# Altium schematic symbol library LM675T.SchLib: 1 symbol
Pins are listed as number, name and electrical type; pins without a type are passive.

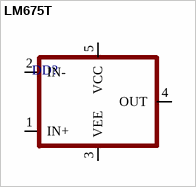
[diagram p0: symbol LM675T]

## LM675T
designator DD?
pins: 1 IN+, 2 IN-, 3 VEE, 4 OUT, 5 VCC